# Altium schematic symbol library C6782225_Part 2.SchLib: 1 symbol
Pins are listed as number, name and electrical type; pins without a type are passive.

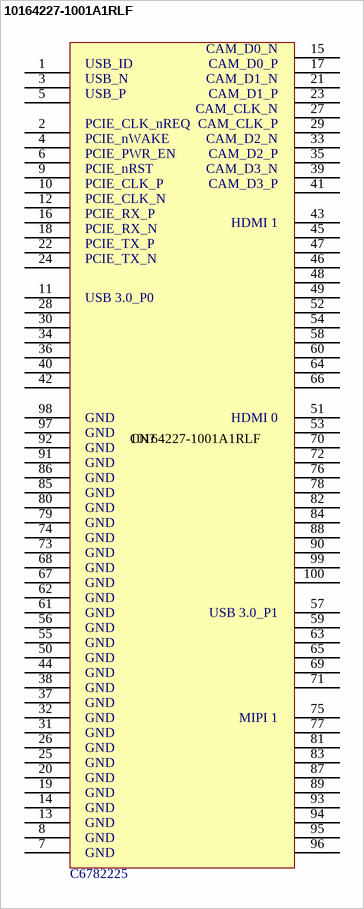
[diagram p0: symbol 10164227-1001A1RLF]

## 10164227-1001A1RLF
designator CN?  Name: C6782225
100 Position Board to Board Connector Surface Mount,P=0.4mm Gold; Source: LCSC
footprint CONN-SMD_100P-P0.40_10164227-1001A1RLF (100 Position Board to Board Connector Surface Mount,P=0.4mm Gold)
pins: 1 USB_ID, 2 PCIe_CLK_REQ, 3 USB_N, 4 PCIe_WAKE, 5 USB_P, 6 PCIE_PWR_EN, 7 GND, 8 GND, 9 PCIE_RST, 10 PCIe_CLK_P, 11 111, 12 PCIe_CLK_N, 13 GND, 14 GND, 15 MIPI_D0_N, 16 PCIe_RX_P, 17 MIPI_D0_P, 18 PCIe_RX_N, 19 GND, 20 GND, 21 MIPI_D1_N, 22 PCIe_TX_P, 23 MIPI_D1_P, 24 PCIe_TX_N, 25 GND, 26 GND, 27 MIPI_C_N, 28 128, 29 MIPI_C_P, 30 130, 31 GND, 32 GND, 33 MIPI_D2_N, 34 134, 35 MIPI_D2_P, 36 136, 37 GND, 38 GND, 39 MIPI_D3_N, 40 140, 41 MIPI_D3_P, 42 142, 43 143, 44 GND, 45 145, 46 146, 47 147, 48 148, 49 149, 50 GND, 51 151, 52 152, 53 153, 54 154, 55 GND, 56 GND, 57 157, 58 158, 59 159, 60 160, 61 GND, 62 GND, 63 163, 64 164, 65 165, 66 166, 67 GND, 68 GND, 69 169, 70 170, 71 171, 72 172, 73 GND, 74 GND, 75 175, 76 176, 77 177, 78 178, 79 GND, 80 GND, 81 181, 82 182, 83 183, 84 184, 85 GND, 86 GND, 87 187, 88 188, 89 189, 90 190, 91 GND, 92 GND, 93 193, 94 194, 95 195, 96 196, 97 GND, 98 GND, 99 199, 100 200
text: CAM_D0_N; CAM_D0_P; CAM_D1_N; CAM_D1_P; CAM_CLK_N; PCIE_CLK_nREQ; CAM_CLK_P; PCIE_nWAKE; CAM_D2_N; CAM_D2_P; PCIE_nRST; CAM_D3_N; PCIE_CLK_P; CAM_D3_P; PCIE_CLK_N; PCIE_RX_P; HDMI 1; PCIE_RX_N; PCIE_TX_P; PCIE_TX_N; USB 3.0_P0; HDMI 0; USB 3.0_P1; MIPI 1